# Altium footprint library DO-201.PcbLib: 1 footprints
Each footprint in its own frame and in the unit in brackets; x right, y up, seen from the top. Pads: shape width x height; smd on the part's side, far side on the other; paste and mask are expansions set on the pad; w line width, h text height; cw(c..) or ccw(c..) is an arc to the next point about the centre after c.
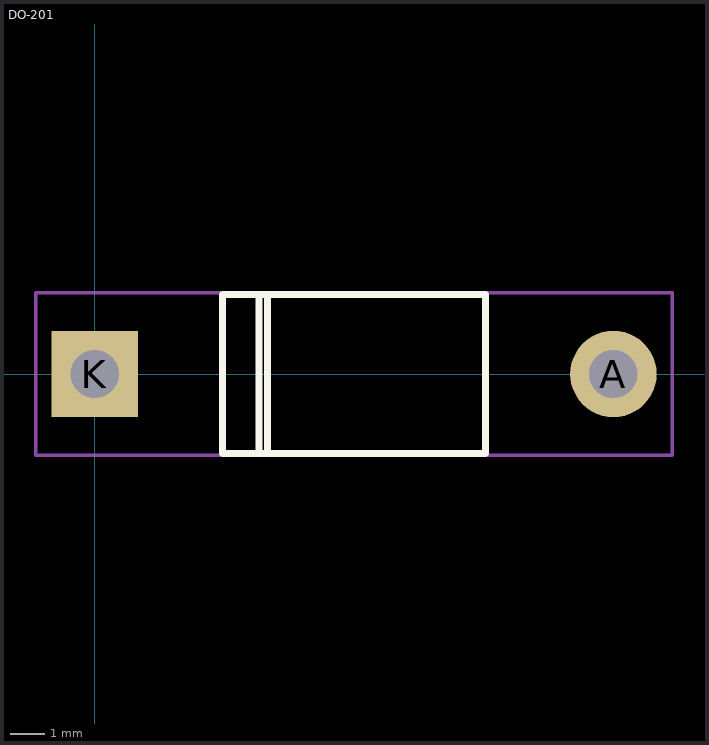
[diagram p0: the footprint, top view; thin cyan lines are the x and y axes]

## DO-201 [mm]
pads (2):
  round 2.5 hole 1.4: A(15,0)
  rect 2.5x2.5 hole 1.4: K(0,0)
Top Overlay:
  lines w0.2: 4.75,-2.3 4.75,2.3 ; 5,-2.3 5,2.3 ; 3.7,-2.3 11.3,-2.3 11.3,2.3 3.7,2.3 3.7,-2.3
Courtyard:
  lines w0.1: -1.7,-2.35 16.7,-2.35 16.7,2.35 -1.7,2.35 -1.7,-2.35
3D body "UF5408-E3_73.STEP": height 5.29, standoff -20.22, extent -0.243,-2.575 15.542,2.725